# EAGLE library part MICROCHIP_PIC12F1501-I-MS (library ringRemote)
MCHP-PIC12F1XXX_752_HV752-8
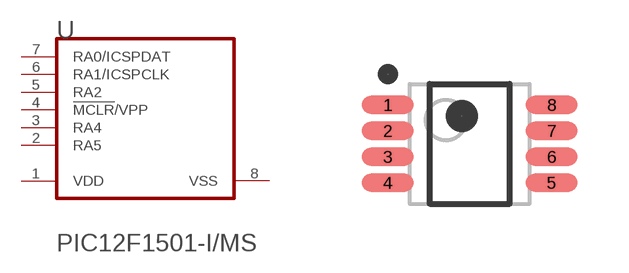
[diagram p0: symbol with the pads of MICROCHIP_PIC12F1501-I-MS_0; footprint MICROCHIP_PIC12F1501-I-MS_0]

Designator prefix U

## MICROCHIP_PIC12F1501-I-MSMICROCHIP_PIC12F1501-I-MS_0_0 (CIIVA_IDS: 1155126; COMPONENT_LINK_2_DESCRIPTION: Package Specification; COMPONENT_LINK_2_URL: http://www.microchip.com/stellent/groups/techpub_sg/documents/packagingspec/en012702.pdf; COMPONENT_LINK_3_DESCRIPTION: URL Link1; COMPONENT_LINK_3_URL: Product URL:http://www.microchip.com/datasheet/PIC12F1501; DATASHEET: http://ww1.microchip.com/downloads/en/DeviceDoc/41615A.pdf; DATASHEET_VERSION: Rev. A; FOOTPRINT_VARIANT_NAME_0: Level C; FOOTPRINT_VARIANT_NAME_1: Level B; FOOTPRINT_VARIANT_NAME_2: Level A; IMPORTED: yes; IMPORTED_FROM: vault; IMPORT_TS: 1521846234; INTERNAL_OSCILLATOR: 16 MHz, 31 kHz; IO_PINS: 5; MAX_CPU_SPEED_MHZ: 20; MEMORY_TYPE: Flash; MF: Microchip; MOUNTING_TECHNOLOGY: Surface Mount; MPN: PIC12F1501-I/MS; OF_AD_CHANNELS: 4; OPERATION_VOLTAGE_RANGE: 2.3V - 5.5V; PACKAGE: MSOP-MS8; PACKAGE_DESCRIPTION: 8-Lead Plastic Micro Small Outline Package, 3 x 3 mm Body, 0.65 mm Pitch; PACKAGE_VERSION: C04-111C, 12/2012; PACKING: TUBE; PREFIX: U; PROGRAM_MEMORY_KBYTES: 1.75; PROGRAM_MEMORY_KWORDS: 1; RAM: 64; RELEASE_DATE: 1370067038; ROHS: Yes; TIMERS: 2 - 8-bit, 1 - 16-bit; VAULT_GUID: 903B7C59-E1DA-4F18-BB31-A668B265E4FC; VAULT_REVISION: 10D8DFF0-9A47-4B00-B437-D0E6DFCFE437)  [MICROCHIP_PIC12F1501-I-MS_0]
1  VDD  pwr
2  RA5
3  RA4
4  !MCLR!/VPP  in
5  RA2
6  RA1/ICSPCLK
7  RA0/ICSPDAT
8  VSS  pwr

## Footprint MICROCHIP_PIC12F1501-I-MS_0 (pad centres in mm)
MCHP-PIC12F1XXX_752_HV752-8
smd 1.3 x 0.45: 1 -2.05,0.975; 2 -2.05,0.325; 3 -2.05,-0.325; 4 -2.05,-0.975; 5 2.05,-0.975; 6 2.05,-0.325; 7 2.05,0.325; 8 2.05,0.975